# Altium schematic symbol library Passive Component.SchLib: 51 symbols
Pins are listed as number, name and electrical type; pins without a type are passive.

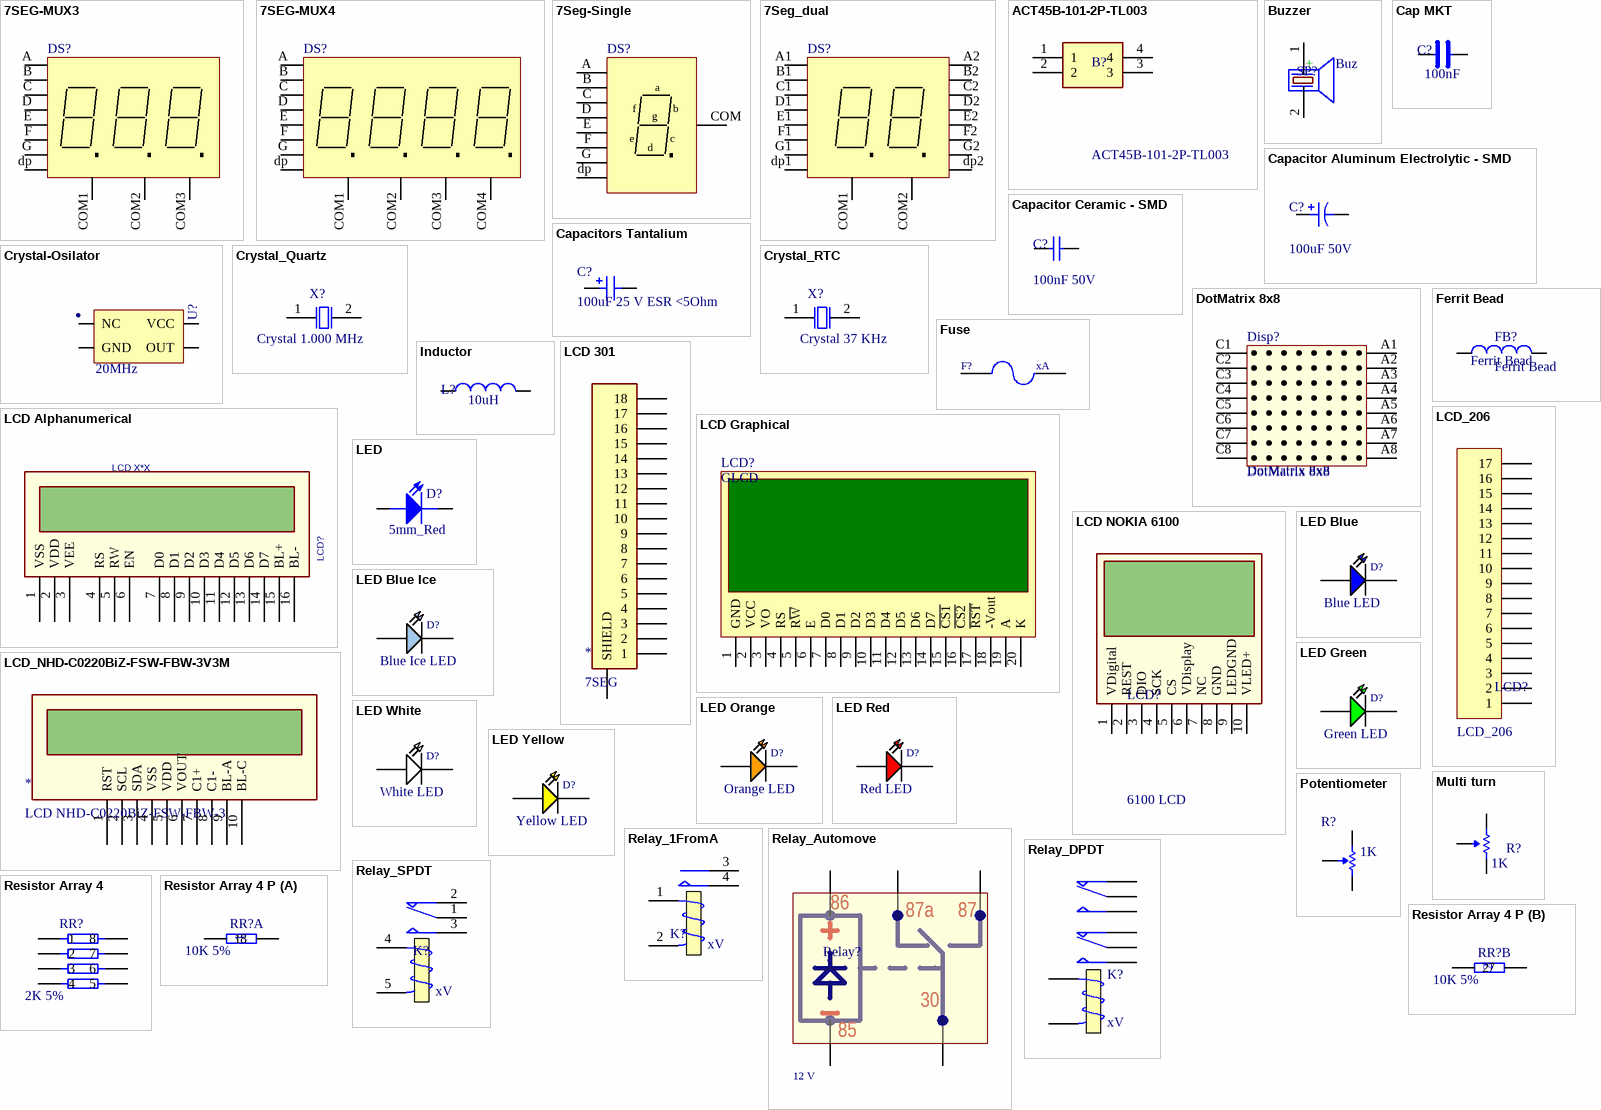
[diagram p0: symbols 7SEG-MUX3 to Resistor Array 4 P]

## 7SEG-MUX3
designator DS?, comment 7SEG  (value not drawn)
Tolerance: ?%; Pacakge: 0603; Specification: -; Value: 7SEG; Temperature Range: -40°C to 150°C
footprint 7SEG-mux3
pins: A, B, C, COM1, COM2, COM3, D, dp, E, F, G

## 7SEG-MUX4
designator DS?, comment 7SEG  (value not drawn)
Tolerance: ?%; Pacakge: 0603; Specification: -; Value: 7SEG; Temperature Range: -40°C to 150°C
footprint 7SEG-mux4
pins: A, B, C, COM1, COM2, COM3, COM4, D, dp, E, F, G

## 7Seg-Single
designator DS?, comment 7SEG  (value not drawn)
Tolerance: ?%; Pacakge: 0603; Specification: -; Value: 7SEG; Temperature Range: -40°C to 150°C
footprint 7SEG-SINGLE
pins: A, B, C, COM VCC, D, dp, E, F, G
2 alternate drawings of the same symbol

## 7Seg_dual
designator DS?, comment 7SEG  (value not drawn)
Tolerance: ?%; Pacakge: 0603; Specification: -; Value: 7SEG; Temperature Range: -40°C to 150°C
footprint 7SEG-DUAL
pins: A1, A2, B1, B2, C1, C2, COM1, COM2, D1, D2, dp1, dp2, E1, E2, F1, F2, G1, G2

## ACT45B-101-2P-TL003
designator B?
Common Mode Filters / Chokes,; Tolerance: ?%; Pacakge: 0603; Value: ACT45B-101-2P-TL003; Specification: -; Temperature Range: -40°C to 150°C
footprint ACT45B1012PTL003
pins: 1, 2, 3, 4

## Buzzer
designator SP?, comment Buz
Speaker with (AX)/without (A) frequency grnerator; Tolerance: ?%; Pacakge: 0603; Value: Buz; Specification: -; Temperature Range: -40°C to 150°C
footprint Buzzer
footprint Buzzer_14x7.5
pins: 1 +, 2 -

## Cap MKT
designator C?, comment 100nF
Cap MKT; Tolerance: ?%; Pacakge: 0603; Specification: -; Temperature Range: -40°C to 150°C; VALUE: 100nF
footprint Cap_yellow
pins: 0 2, 1

## Capacitor Aluminum Electrolytic - SMD
designator C?, comment 100uF 50V
Aluminum Electrolytic Capacitor - SMD; Specification: Aluminum Electrolytic Capacitors - SMD 100uF  50V  20%; Tolerance: 20%; Pacakge: Radial,Can - SMD CaseX(x*x); Temperature Range: -55°C to 105°C; Value: 100uF; Voltage_Rating: 50V
footprint CaseA (3*5.4) (Electrolytic Capacitor SMD Case)
footprint CaseB(4*5.4) (Electrolytic Capacitor SMD Case)
footprint CaseC(5*5.4) (Electrolytic Capacitor SMD Case)
footprint CaseD8(6.3*8) (Electrolytic Capacitor SMD Case)
footprint CaseD(6.3*5.4) (Electrolytic Capacitor SMD Case)
footprint CaseE(8*6.2) (Electrolytic Capacitor SMD Case)
footprint CaseF(8*10.2) (Electrolytic Capacitor SMD Case)
footprint CaseG(10*10.2) (Electrolytic Capacitor SMD Case)
pins: 1, 2
1 alternate drawing of the same symbol

## Capacitor Ceramic - SMD
designator C?, comment 100nF 50V
Multilayer Ceramic Capacitors MLCC - SMD/SMT; Specification: Multilayer Ceramic Capacitors MLCC - SMD/SMT 100nF  X7R 10%  50V; Tolerance: X7R 10%; Pacakge: 0603; Temperature Range: -55°C to 125°C; Value: 100nF; Voltage_Rating: 50V; ESR: *
footprint CAP0201 (Chip Capacitor, 2-Leads, Body 0/60x0/30mm, IPC Medium Density DESIGNER:ABBAS BASEREH)
footprint CAP0402 (Chip Capacitor, 2-Leads, Body 1/00x0/50mm, IPC Medium Density DESIGNER:ABBAS BASEREH)
footprint CAP0603 (Chip Capacitor, 2-Leads, Body 1/60x0/80mm, IPC Medium Density DESIGNER:ABBAS BASEREH)
footprint CAP0805 (Chip Capacitor, 2-Leads, Body 2/00x1/25mm, IPC Medium Density DESIGNER:ABBAS BASEREH)
footprint CAP1206 (Chip Capacitor, 2-Leads, Body 3/20x1/60mm, IPC Medium Density DESIGNER:ABBAS BASEREH)
footprint CAP1210 (Chip Capacitor, 2-Leads, Body 3/20x2/50mm, IPC Medium Density DESIGNER:ABBAS BASEREH)
footprint CAP1812 (Chip Capacitor, 2-Leads, Body 4/50x3/20mm, IPC Medium Density DESIGNER:ABBAS BASEREH)
footprint CAP2010 (Chip Capacitor, 2-Leads, Body 5/00x2/50mm, IPC Medium Density DESIGNER:ABBAS BASEREH)
footprint CAP2512 (Chip Capacitor, 2-Leads, Body 6/40x3/20mm, IPC Medium Density DESIGNER:ABBAS BASEREH)
pins: 1, 2

## Capacitors Tantalium
designator C?, comment 100uF 25 V ESR <5Ohm
Tantalum Capacitors - Solid SMD; Specification: Tantalum Capacitors - Solid SMD 100uF  25 V  10% ESR <5Ohm; Tolerance: 10%; Voltage_Rating: 25 V; Temperature Range: -55°C to 125°C; Value: 100uF; ESR: <5Ohm
footprint CT_2917 (7343H_CaseE)
footprint CT_2916 (7343_CaseD)
footprint CT_2412 (6032_CaseC)
footprint CT_1411 (3528_CaseB)
footprint CT_1411 (3216_CaseA)
pins: 1, 2

## Crystal-Osilator
designator U?, comment 20MHz
Oslilator; Tolerance: ?%; Pacakge: 0603; Specification: -; Temperature Range: -40°C to 150°C; Value: 20MHz
pins: 1 NC, 7 GND, 8 OUT, 14 VCC
text: .

## Crystal_Quartz
designator X?, comment Crystal 1.000 MHz
Quartz; Specification: * CRYSTAL 1.000 MHz  18pF  ±20 PPM; Tolerance: ±20 PPM; Load_Capacitance: 18pF; ESR: 80 Ohm; Pacakge: HC49/US; Temperature Range: -20°C to 105°C; Frequency: 1.000 MHz; PartNumber: *
footprint Crystal SMD (DESIGNER ABBAS BASEREH)
footprint CRYSTAL Small (DESIGNER ABBAS BASEREH)
pins: 1 OSC1, 2 OSC2

## Crystal_RTC
designator X?, comment Crystal 37 KHz
Quartz; Specification: * CRYSTAL 37 KHz  18pF  ±20 PPM; Tolerance: ±20 PPM; Load_Capacitance: 18pF; Frequency: 37 KHz; ESR: 80 Ohm; Pacakge: 0603; Temperature Range: -20°C to 105°C; PartNumber: *
footprint Crystal SMD (DESIGNER ABBAS BASEREH)
footprint CRYSTAL Small (DESIGNER ABBAS BASEREH)
pins: 1 OSC1, 2 OSC2

## DotMatrix 8x8
designator Disp?
Tolerance: ?%; Pacakge: 0603; Specification: -; Temperature Range: -40°C to 150°C; Value: DotMatrix 8x8
footprint Matrix8x8-60mm
footprint Matrix8x8-38mm
pins: A1, A2, A3, A4, A5, A6, A7, A8, C1 C, C2 C, C3 C, C4 C, C5 C, C6 C, C7 C, C8 C

## Ferrit Bead
designator FB?
Tolerance: ?%; Pacakge: 0603; Specification: -; Temperature Range: -40°C to 150°C; Value: Ferrit Bead
footprint 0402 Ferrit Bead
footprint 0603 Ferrit Bead
footprint 0805 Ferrit Bead
footprint 1206 Ferrit Bead
footprint 3030 Ferrit 2.2uH
pins: 1, 2

## Fuse
designator F?, comment xA
Fuses 5x20 with holdeer pins; Tolerance: ?%; Pacakge: 0603; Specification: -; Temperature Range: -40°C to 150°C; Value: xA
footprint Fuse 5x20 With holder pin (Dsigner : Abbas Basereh)
footprint FUSE_2
footprint FUSE_Box
footprint Fuse_0805
footprint Fuse_1206
footprint FUSE_1812
footprint RUEF300
footprint x125f-16v (Chip Resistor, 2-Leads, Body 4.5x3.2mm, IPC Medium Density)
footprint AUPO-5PF-1 (aupo p5f)
footprint AUPO-5PF-2 (aupo p5f)
pins: 1, 2

## Inductor
designator L?, comment 10uH
Inductor; Tolerance: ?%; Pacakge: 0603; Specification: -; Temperature Range: -40°C to 150°C; Value: 10uH
footprint L_0805 (Inductor Pattern)
footprint Inductor 10x12 (200 mils) (POWER INDUCTOR 10x12 (200 mils) DESIGNER ABBAS BASEREH)
footprint Inductor Iron
footprint L_Axial  (1/4)
footprint L_Axial  (1/8)
footprint CDRH127
footprint L_1206 (Chip Inductor, 2-Leads, Body 3/20x1/60mm, IPC Medium Density DESIGNER:ABBAS BASEREH)
footprint CDRH74
footprint LX1
pins: 1, 2

## LCD 301
designator *, comment 7SEG
Tolerance: ?%; Pacakge: 0603; Specification: -; Value: 7SEG; Temperature Range: -40°C to 150°C
footprint 301_LCD_V2
pins: 1, 2, 3, 4, 5, 6, 7, 8, 9, 10, 11, 12, 13, 14, 15, 16, 17, 18, 19 SHIELD

## LCD Alphanumerical
designator LCD?, comment LCD X*X
2 X 16 _ 4 X 20; Tolerance: ?%; Pacakge: 0603; Value: LCD X*X; Specification: -; Temperature Range: -40°C to 150°C
footprint LCD 4*20
footprint LCD 2*16 (LCD)
footprint LCD 2*16 With Spacer (LCD 2x16 Alphanumberic)
footprint LCD 4*20 with spacer
pins: 1 VSS, 2 VDD, 3 VEE, 4 RS, 5 RW, 6 EN, 7 D0, 8 D1, 9 D2, 10 D3, 11 D4, 12 D5, 13 D6, 14 D7, 15 BL+, 16 BL-

## LCD Graphical
designator LCD?, comment GLCD
128 X 64; Tolerance: ?%; Pacakge: 0603; Value: GLCD; Specification: -; Temperature Range: -40°C to 150°C
footprint LCDG-128*64
pins: 1 GND, 2 VCC, 3 VO, 4 RS, 5 R~{W}, 6 E, 7 D0, 8 D1, 9 D2, 10 D3, 11 D4, 12 D5, 13 D6, 14 D7, 15 ~{CS1}, 16 ~{CS2}, 17 ~{RST}, 18 -Vout, 19 A, 20 K

## LCD NOKIA 6100
designator LCD?, comment 6100 LCD
NOKIA 6100 LCD; Tolerance: ?%; Pacakge: 0603; Value: 6100 LCD; Specification: -; Temperature Range: -40°C to 150°C
footprint LCD_NOKIA6100
pins: 1 VDigital, 2 REST, 3 DIO, 4 SCK, 5 CS, 6 VDisplay, 7 NC, 8 GND, 9 LEDGND, 10 VLED+

## LCD_206
designator LCD?
Tolerance: ?%; Pacakge: 0603; Value: LCD_206; Specification: -; Temperature Range: -40°C to 150°C
footprint LCD_206
pins: 1, 2, 3, 4, 5, 6, 7, 8, 9, 10, 11, 12, 13, 14, 15, 16, 17

## LCD_NHD-C0220BiZ-FSW-FBW-3V3M
designator *, comment LCD NHD-C0220BiZ-FSW-FBW-3
Tolerance: ?%; Pacakge: 0603; Specification: -; Value: LCD NHD-C0220BiZ-FSW-FBW-3; Temperature Range: -40°C to 150°C
pins: 1 RST, 2 SCL, 3 SDA, 4 VSS, 5 VDD, 6 VOUT, 7 C1+, 8 C1-, 9 BL-A, 10 BL-C

## LED
designator D?, comment 5mm_Red
Typical INFRARED GaAs LED; Pacakge: 0603; Specification: -; Temperature Range: -40°C to 150°C; Value: 5mm_Red
footprint LED_3mm
footprint LED_5mm
footprint LED_0805
footprint LED_1206
footprint LED-3528
footprint LED-3528-W
footprint LED_5mm - Right
footprint LED_5mm - Right2
pins: 1 A, 2 K

## LED Blue
designator D?, comment Blue LED
Typical LED; Pacakge: 3528 SMD; Specification: Blue LED; Temperature Range: -40°C to 150°C
footprint LED_3mm
footprint LED_5mm
footprint LED_0805
footprint LED_1206
footprint LED-3528
footprint LED-3528-W
footprint LED_5mm - Right
footprint LED_5mm - Right2
pins: 1 A, 2 K

## LED Blue Ice
designator D?, comment Blue Ice LED
Typical LED; Pacakge: 3528 SMD; Specification: Blue Ice LED; Temperature Range: -40°C to 150°C
footprint LED_3mm
footprint LED_5mm
footprint LED_0805
footprint LED_1206
footprint LED-3528
footprint LED-3528-W
footprint LED_5mm - Right
footprint LED_5mm - Right2
pins: 1 A, 2 K

## LED Green
designator D?, comment Green LED
Typical LED; Pacakge: 3528 SMD; Specification: Green LED; Temperature Range: -40°C to 150°C
footprint LED_3mm
footprint LED_5mm
footprint LED_0805
footprint LED_1206
footprint LED-3528
footprint LED-3528-W
footprint LED_5mm - Right2
footprint LED_5mm - Right
pins: 1 A, 2 K

## LED Orange
designator D?, comment Orange LED
Typical LED; Pacakge: 3528 SMD; Specification: Orange LED; Temperature Range: -40°C to 150°C
footprint LED_3mm
footprint LED_5mm
footprint LED_0805
footprint LED_1206
footprint LED-3528
footprint LED-3528-W
footprint LED_5mm - Right
footprint LED_5mm - Right2
pins: 1 A, 2 K

## LED Red
designator D?, comment Red LED
Typical LED; Pacakge: 3528 SMD; Specification: Red LED; Temperature Range: -40°C to 150°C
footprint LED_3mm
footprint LED_5mm
footprint LED_0805
footprint LED_1206
footprint LED-3528
footprint LED-3528-W
footprint LED_5mm - Right2
footprint LED_5mm - Right
pins: 1 A, 2 K

## LED White
designator D?, comment White LED
Typical LED; Pacakge: 3528 SMD; Specification: White LED; Temperature Range: -40°C to 150°C
footprint LED_3mm
footprint LED_5mm
footprint LED_0805
footprint LED_1206
footprint LED-3528
footprint LED-3528-W
footprint LED_5mm - Right
footprint LED_5mm - Right2
pins: 1 A, 2 K

## LED Yellow
designator D?, comment Yellow LED
Typical LED; Pacakge: 3528 SMD; Specification: Yellow LED; Temperature Range: -40°C to 150°C
footprint LED_3mm
footprint LED_5mm
footprint LED_0805
footprint LED_1206
footprint LED-3528
footprint LED-3528-W
pins: 1 A, 2 K

## Multi turn
designator R?, comment 1K
Potentiometer; Tolerance: ?%; Pacakge: 0603; Specification: -; Temperature Range: -40°C to 150°C; Value: 1K
footprint Multi turn 1
footprint Multi turn 2
footprint Multi turn 3
pins: 1 TOP, 2 TAP, 3 BOT
1 alternate drawing of the same symbol

## Potentiometer
designator R?, comment 1K
Potentiometer; Tolerance: ?%; Pacakge: 0603; Specification: -; Temperature Range: -40°C to 150°C; Value: 1K
footprint POT 1 (Trimmer)
footprint Pot 2 (Trimmer)
footprint POT 3 (Trimmer)
pins: 1, 2, 3

## Relay_1FromA
designator K?, comment xV
Single-Pole Dual-Throw Relay_Milon; Tolerance: ?%; Pacakge: 0603; Value: xV; Specification: -; Temperature Range: -40°C to 150°C
footprint ALDP (LD-P RELAYS)
pins: 1 T1, 2 T2, 3 COM, 4 NO

## Relay_Automove
designator Relay?, comment 12 V
Relay SONGLE SLD_12VDC-1C; Tolerance: ?%; Pacakge: 0603; Specification: -; Temperature Range: -40°C to 150°C; Value: 12 V
footprint SONGLE SLD_12VDC-1C (Relay SONGLE SLD_12VDC-1C)
pins: 30, 85, 86, 87 ~{}, 87a

## Relay_DPDT
designator K?, comment xV
Dual-Pole Dual-Throw Relay_Milon; Tolerance: ?%; Pacakge: 0603; Specification: -; Temperature Range: -40°C to 150°C; Value: xV
footprint Relay 20.66x9.77x11.95
pins: 1 COM, 2 NC, 3 NO, 4 T1, 5 T2, 7 COM, 8 NC, 9 NO

## Relay_SPDT
designator K?, comment xV
Single-Pole Dual-Throw Relay_Milon; Tolerance: ?%; Pacakge: 0603; Specification: -; Temperature Range: -40°C to 150°C; Value: xV
footprint Relay 18.85x15.35x15.70 (DESIGNER ABBAS BASEREH)
footprint Mini Milon
footprint OMRON 8Pin Relay
footprint Relay Needle 31.7x26.7x28 (DESIGNER ABBAS BASEREH)
footprint TIANBO (TIANBO Reaky TR5V L-S-Z)
footprint NT90TN
pins: 1 COM, 2 NC, 3 NO, 4 T1, 5 T2

## Resistor Array 4
designator RR?, comment 2K 5%
Array Resistors; Specification: Array Resistors 2K ohms 5%; Pacakge: 0603; SMD Code: *; Temperature Range: -55°C to 155°C; Warehouse Number: *; Tolerance: 5%; Value: 2K
footprint RES-4-0603
pins: 1, 2, 3, 4, 5, 6, 7, 8

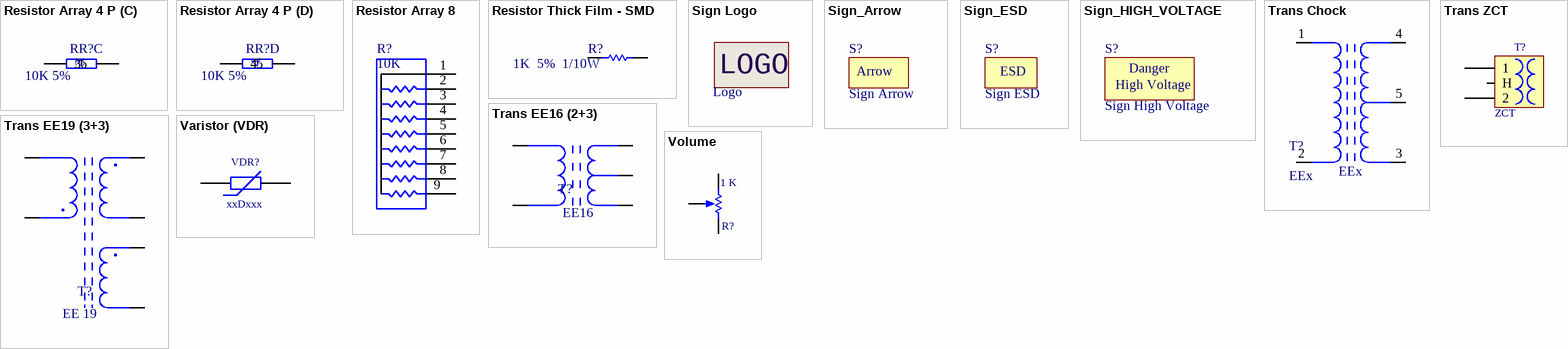
[diagram p1: symbols Resistor Array 4 P to Volume]

## Resistor Array 4 P
designator RR?, comment 10K 5%
Array Resistors; Specification: Array Resistors 10K ohms 5%; Pacakge: 0603; Temperature Range: -55°C to 155°C; Tolerance: 5%; Value: 10K
footprint RES-4-0603
part A pins: 1, 8
part B pins: 2, 7
part C pins: 3, 6
part D pins: 4, 5

## Resistor Array 8
designator R?, comment 10K
Array Resistor-Include 8 RES; Tolerance: ?%; Pacakge: 0603; Specification: -; Temperature Range: -40°C to 150°C; Value: 10K
footprint Res Array 8
pins: 1, 2, 3, 4, 5, 6, 7, 8, 9

## Resistor Thick Film - SMD
designator R?, comment 1K  5%  1/10W
Thick Film Resistor SMD; Specification: Tick Film Resistor 1K 5% 1/10W; Pacakge: 0603; Tolerance: 5%; Temperature Range: -55°C to 155°C; Value: 1K; Power: 1/10W
footprint RES0201 (Chip Resistor, 2-Leads, Body 0/60x0/30mm, IPC Medium Density DESIGNER:ABBAS BASEREH)
footprint RES0402 (Chip Resistor, 2-Leads, Body 1/00x0/50mm, IPC Medium Density DESIGNER:ABBAS BASEREH)
footprint RES0603 (Chip Resistor, 2-Leads, Body 1/60x0/80mm, IPC Medium Density DESIGNER:ABBAS BASEREH)
footprint RES0805 (Chip Resistor, 2-Leads, Body 2/00x1/25mm, IPC Medium Density DESIGNER:ABBAS BASEREH)
footprint RES1206 (Chip Resistor, 2-Leads, Body 3/20x1/60mm, IPC Medium Density DESIGNER:ABBAS BASEREH)
footprint RES1210 (Chip Resistor, 2-Leads, Body 3/20x2/50mm, IPC Medium Density DESIGNER:ABBAS BASEREH)
footprint RES1812 (Chip Resistor, 2-Leads, Body 4/50x3/20mm, IPC Medium Density DESIGNER:ABBAS BASEREH)
footprint RES2010 (Chip Resistor, 2-Leads, Body 5/00x2/50mm, IPC Medium Density DESIGNER:ABBAS BASEREH)
footprint RES2512 (Chip Resistor, 2-Leads, Body 6/40x3/20mm, IPC Medium Density DESIGNER:ABBAS BASEREH)
pins: 1, 2

## Sign Logo
designator Logo, comment Logo  (value not drawn)
Tolerance: ?%; Pacakge: 0603; Value: Logo; Specification: -; Temperature Range: -40°C to 150°C
footprint LOGO SPEAKER
footprint LOGO USB
footprint LOGO ALARM
footprint LOGO ESD (Electrostatic Sensiving Device)
footprint LOGO RESET
footprint LOGO B1-B
footprint LOGO B1-S
footprint SAZ-B
footprint SAZ-S
footprint PAD_A
footprint PAD_B
footprint PAD_C
footprint TRACKING LABLE
text: LOGO

## Sign_Arrow
designator S?, comment Sign Arrow
Tolerance: ?%; Pacakge: 0603; Specification: -; Value: Sign Arrow; Temperature Range: -40°C to 150°C
footprint Arrow
text: Arrow

## Sign_ESD
designator S?, comment Sign ESD
Tolerance: ?%; Pacakge: 0603; Specification: -; Value: Sign ESD; Temperature Range: -40°C to 150°C
footprint ESD
text: ESD

## Sign_HIGH_VOLTAGE
designator S?, comment Sign High Voltage
Tolerance: ?%; Pacakge: 0603; Specification: -; Value: Sign High Voltage; Temperature Range: -40°C to 150°C
footprint HIGH VOLTAGE
text: Danger; High Voltage

## Trans Chock
designator T?, comment EEx
Transformer 1:1 600ohm; Tolerance: ?%; Pacakge: 0603; Value: EEx; Specification: -; Temperature Range: -40°C to 150°C
footprint EE16-(3+2) (EE166)
pins: 1, 2, 3, 4, 5

## Trans EE16 (2+3)
designator T?, comment EE16
transformer EE16-Frrite Core; Tolerance: ?%; Pacakge: 0603; Value: EE16; Specification: -; Temperature Range: -40°C to 150°C
footprint EE16-(3+2) (EE166)
pins: 1, 2, 3, 4, 5

## Trans EE19 (3+3)
designator T?, comment EE 19
transformer EE19-Frrite Core; Tolerance: ?%; Pacakge: 0603; Value: EE 19; Specification: -; Temperature Range: -40°C to 150°C
pins: 1, 2, 3, 4, 5, 6

## Trans ZCT
designator T?, comment ZCT
Current Trans_ZCT_1:1000; Tolerance: ?%; Pacakge: 0603; Specification: -; Temperature Range: -40°C to 150°C; Value: ZCT
footprint ZCT 1:1000
pins: 1, 2, H

## Varistor (VDR)
designator VDR?, comment xxDxxx
Tolerance: ?%; Pacakge: 0603; VALUE: xxDxxx; Specification: -; Temperature Range: -40°C to 150°C
footprint 05D XXX (MOV-05DxxxK Metal Oxide Varistors (MOVs) are 5 mm-Design:Abbas Basereh)
footprint 07D XXX (MOV-07DxxxK Metal Oxide Varistors (MOVs) are 7 mm-Design:Abbas Basereh)
footprint 10D XXX (MOV-10DxxxK Metal Oxide Varistors (MOVs) are 10 mm-Design:Abbas Basereh)
footprint 14D XXX (MOV-14DxxxK Metal Oxide Varistors (MOVs) are 14 mm-Design:Abbas Basereh)
footprint 20D XXX (MOV-20DxxxK Metal Oxide Varistors (MOVs) are 20 mm-Design:Abbas Basereh)
footprint 23D XXX (MOV-23DxxxK Metal Oxide Varistors (MOVs) are 23 mm-Design:Abbas Basereh)
pins: 1, 2

## Volume
designator R?, comment 1 K
Potentiometer; Tolerance: ?%; Pacakge: 0603; Specification: -; Temperature Range: -40°C to 150°C; Value: 1 K
footprint Volume 1 (Voloume)
footprint Volume 2
footprint Volume 3 (Volume Right)
pins: 1 TOP, 2 TAP, 3 BOT